# EAGLE library part MINISDREADER (library minisdreader)
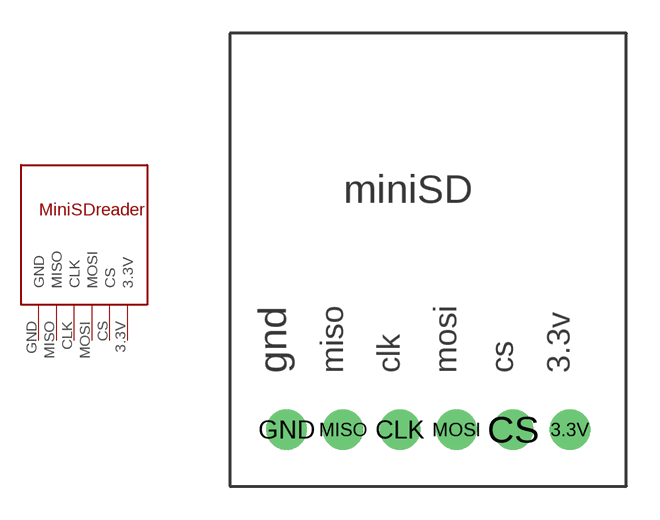
[diagram p0: symbol with the pads of MINISDREADER; footprint MINISDREADER]

Designator prefix -

## MINISDREADER  [MINISDREADER]
3.3V  3.3V
CLK  CLK
CS  CS
GND  GND
MISO  MISO
MOSI  MOSI

## Footprint MINISDREADER (pad centres in mm)
drill 1.212 pad 1.411: 3.3V 15.24,-17.78; CLK 7.62,-17.78; CS 12.7,-17.78; GND 2.54,-17.78; MISO 5.08,-17.78; MOSI 10.16,-17.78